# Altium schematic symbol library SL_Capacitors_EMI.SchLib: 1 symbol
Pins are listed as number, name and electrical type; pins without a type are passive.

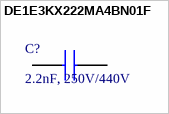
[diagram p0: symbol DE1E3KX222MA4BN01F]

## DE1E3KX222MA4BN01F
designator C?, comment 2.2nF, 250V/440V
Manufacturer_Name: Murata Electronics; Manufacturer_Part_Number: DE1E3KX222MA4BN01F; Datasheet Link: https://search.murata.co.jp/Ceramy/image/img/A01X/G101/ENG/DE1_KX_N01F_E.pdf; Height: 7mm; Mouser Part Number: 81-DE1E3KX222MA4BN1F; Mouser Price/Stock: https://www.mouser.co.uk/ProductDetail/Murata-Electronics/DE1E3KX222MA4BN01F?qs=kqlpaQXGN21unJTGpp0LrQ%3D%3D; Arrow Part Number: DE1E3KX222MA4BN01F; Arrow Price/Stock: https://www.arrow.com/en/products/de1e3kx222ma4bn01f/murata-manufacturing
footprint DE1E3KX222MA4BN01F
pins: 1, 2